# Altium footprint library SMD_size_C.PcbLib: 1 footprints
Each footprint in its own frame and in the unit in brackets; x right, y up, seen from the top. Pads: shape width x height; smd on the part's side, far side on the other; paste and mask are expansions set on the pad; w line width, h text height; cw(c..) or ccw(c..) is an arc to the next point about the centre after c.
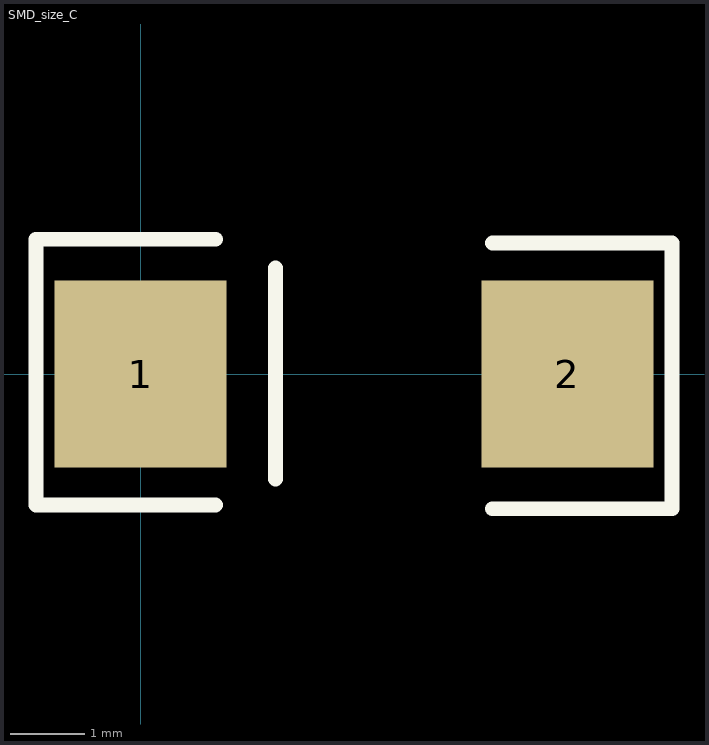
[diagram p0: the footprint, top view; thin cyan lines are the x and y axes]

## SMD_size_C [mm]
pads (2):
  rect 2.3x2.5 smd: 1(0,0) 2(5.7,0)
Top Overlay:
  lines w0.2: 1,-1.75 -1.4,-1.75 -1.4,1.8 1,1.8 ; 1.8,-1.4 1.8,1.416 ; 4.7,-1.8 7.1,-1.8 7.1,1.75 4.7,1.75
3D body "SMD_CaseC_6032-28.step": height 2.5, standoff 0, extent -0.2,-1.6 5.8,1.6